# EAGLE library part 2X06 (library pimoroni-connectors)
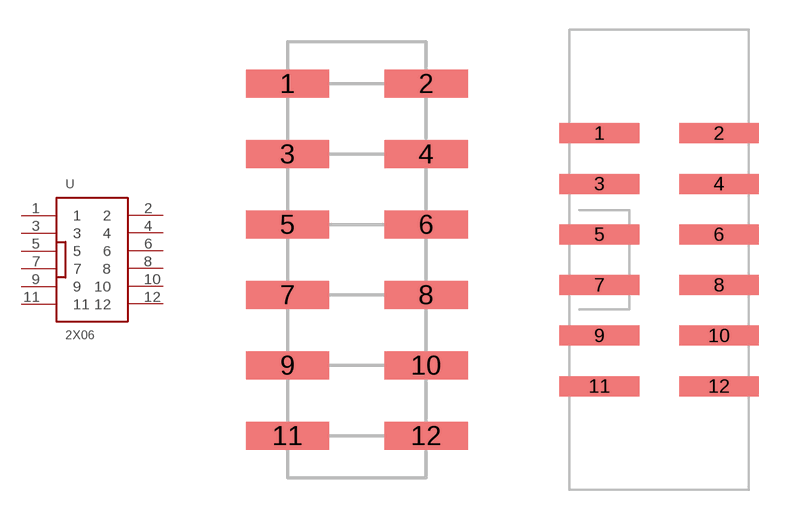
[diagram p12: symbol with the pads of 2X06_SMT; footprints 2X06_SMT, 2X06_SMT_SHROUDED]

Designator prefix -

## 2X06  [2X06_SMT]
1  1
2  2
3  3
4  4
5  5
6  6
7  7
8  8
9  9
10  10
11  11
12  12

## 2X06_SHROUDED  [2X06_SMT_SHROUDED]
Pads as for 2X06_SMT

## 2X06PTH  [2X06_PTH]
Pads as for 2X06_SMT

## Footprint 2X06_SMT (pad centres in mm)
smd 3 x 1: 1 -2.5,6.35; 2 2.5,6.35; 3 -2.5,3.81; 4 2.5,3.81; 5 -2.5,1.27; 6 2.5,1.27; 7 -2.5,-1.27; 8 2.5,-1.27; 9 -2.5,-3.81; 10 2.5,-3.81; 11 -2.5,-6.35; 12 2.5,-6.35

## Footprint 2X06_SMT_SHROUDED (pad centres in mm)
smd 4 x 1: 1 -3,6.35; 2 3,6.35; 3 -3,3.81; 4 3,3.81; 5 -3,1.27; 6 3,1.27; 7 -3,-1.27; 8 3,-1.27; 9 -3,-3.81; 10 3,-3.81; 11 -3,-6.35; 12 3,-6.35

## Footprint 2X06_PTH (pad centres in mm)
drill 1: 1 -1.27,6.35; 2 1.27,6.35; 3 -1.27,3.81; 4 1.27,3.81; 5 -1.27,1.27; 6 1.27,1.27; 7 -1.27,-1.27; 8 1.27,-1.27; 9 -1.27,-3.81; 10 1.27,-3.81; 11 -1.27,-6.35; 12 1.27,-6.35